# Altium footprint library vitech_resistors.PcbLib: 4 footprints
Each footprint in its own frame and in the unit in brackets; x right, y up, seen from the top. Pads: shape width x height; smd on the part's side, far side on the other; paste and mask are expansions set on the pad; w line width, h text height; cw(c..) or ccw(c..) is an arc to the next point about the centre after c.
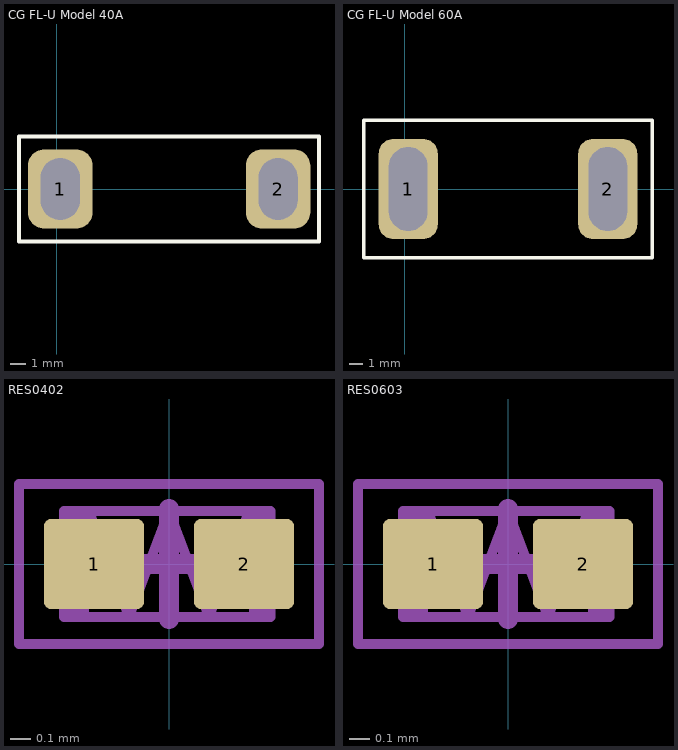
[diagram p0: the footprints below, top view; thin cyan lines are the x and y axes]

## CG FL-U Model 40A [mm]
pads (2):
  rrect50% 4.3x5.3 hole 2.6 slot 4.1 at 90 deg: 1(0.25,0) 2(14.768,0)
Top Overlay:
  lines w0.254: -2.5,-3.5 17.5,-3.5 17.5,3.5 -2.5,3.5 -2.5,-3.5
Top Assembly:
  text ".Designator" at 5.359,4.077 h0.5
Mechanical 19:
  text ".Comment" at 5.39,4.915 h0.5
3D body "CG FL-U Model 40A.STEP": height 15.8, standoff -2.2, extent -0.701,-3 15.701,3

## CG FL-U Model 60A [mm]
pads (2):
  rrect50% 4.3x7.3 hole 2.8 slot 6.1 at 90 deg: 1(0.25,0) 2(14.75,0)
Top Overlay:
  lines w0.254: -3,-5 18,-5 18,5 17,5 -2,5 -3,5 -3,-5
Top Assembly:
  text ".Designator" at 5.638,5.449 h0.5
Mechanical 19:
  text ".Comment" at 5.669,6.287 h0.5
3D body "CG FL-U Model 60A.STEP": height 2.2, standoff -15.8, extent -0.701,-4.5 15.701,4.5

## RES0402 [mm]
pads (2):
  rrect15% 0.5x0.45 smd mask+0.05: 1(-0.375,0) 2(0.375,0)
Assembly:
  rectangle: -0.525,-0.265 -0.4,0.265
  region: 0.525,0.265 0.4,0.265 0.4,-0.265 0.525,-0.265
  lines w0.05: -0.4,0.265 -0.2,-0.265 0,0.265 0.2,-0.265 0.4,0.265 ; -0.525,-0.265 -0.525,0.265 0.508,0.265 0.508,-0.265 -0.525,-0.265
Mechanical 15:
  lines w0.05: -0.75,-0.4 0.75,-0.4 0.75,0.4 -0.75,0.4 -0.75,-0.4
  lines w0.1: -0.275,0 0.275,0 ; 0,-0.275 0,0.275
Mechanical 17:
  text ".Designator" at -2.366,1.338 h0.5
Mechanical 19:
  text ".Comment" at -2.366,0.688 h0.5
3D body "RC0402.STEP": height 0.4, standoff 0, extent -0.525,-0.275 0.525,0.275

## RES0603 [mm]
pads (2):
  rrect15% 0.5x0.45 smd mask+0.05: 1(-0.375,0) 2(0.375,0)
Assembly:
  rectangle: -0.525,-0.265 -0.4,0.265
  region: 0.525,0.265 0.4,0.265 0.4,-0.265 0.525,-0.265
  lines w0.05: -0.4,0.265 -0.2,-0.265 0,0.265 0.2,-0.265 0.4,0.265 ; -0.525,-0.265 -0.525,0.265 0.508,0.265 0.508,-0.265 -0.525,-0.265
Mechanical 15:
  lines w0.05: -0.75,-0.4 0.75,-0.4 0.75,0.4 -0.75,0.4 -0.75,-0.4
  lines w0.1: -0.275,0 0.275,0 ; 0,-0.275 0,0.275
Mechanical 17:
  text ".Designator" at -2.366,1.338 h0.5
Mechanical 19:
  text ".Comment" at -2.366,0.688 h0.5
3D body "RC0402.STEP": height 0.4, standoff 0, extent -0.525,-0.275 0.525,0.275